# Altium footprint library lan_PCB.PcbLib: 28 footprints (part 2 of 2)
Each footprint in its own frame and in the unit in brackets; x right, y up, seen from the top. Pads: shape width x height; smd on the part's side, far side on the other; paste and mask are expansions set on the pad; w line width, h text height; cw(c..) or ccw(c..) is an arc to the next point about the centre after c.
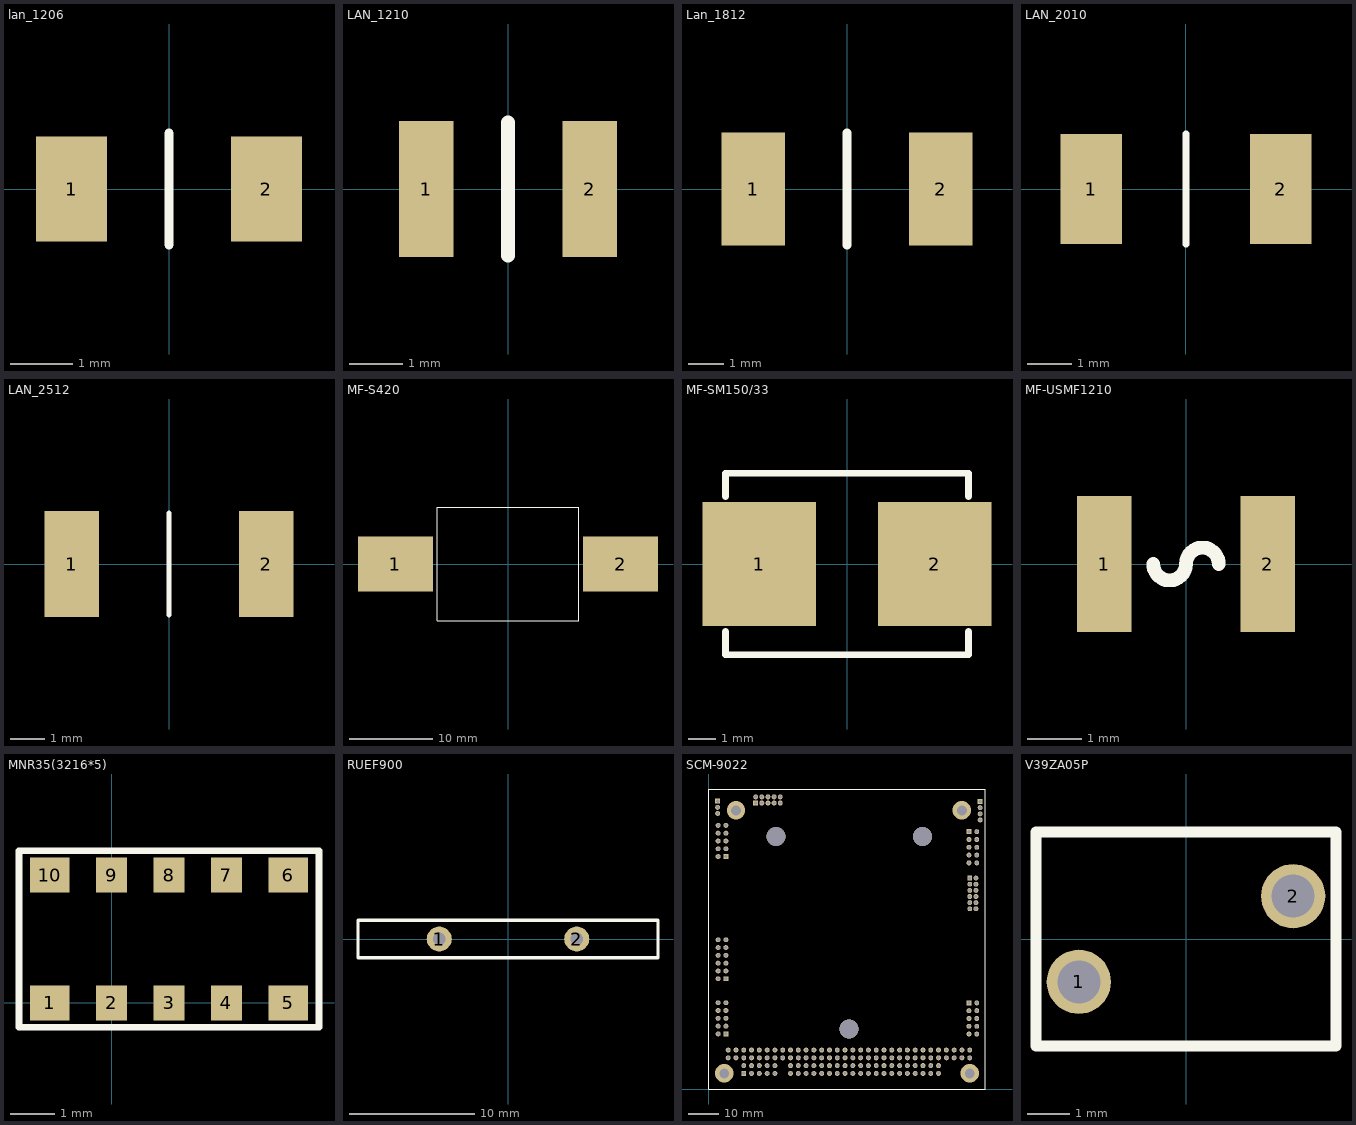
[diagram p1: the footprints below, top view; thin cyan lines are the x and y axes]

## lan_1206 [mm]
pads (2):
  rect 1.15x1.7 smd: 1(-1.575,0) 2(1.575,0)
Top Overlay:
  lines w0.152: 0,-0.9 0,0.9
3D body: height 1, standoff 0, extent -1.6,-0.787 1.6,0.787

## LAN_1210 [mil] "FOR AVX CAPACITOR"
height 138
pads (2):
  rect 40x100 smd: 1(-60,0) 2(60,0)
Top Overlay:
  lines w10: 0,-49 0,49

## Lan_1812 [mm] "For Junyao SMD1812 PTC"
pads (2):
  rect 1.78x3.15 smd mask+0.127: 1(-2.616,0) 2(2.616,0)
Top Overlay:
  lines w0.254: 0,-1.57 0,1.57

## LAN_2010 [mm]
pads (2):
  rect 1.4x2.5 smd: 1(-2.15,0) 2(2.15,0)
Top Overlay:
  lines w0.152: 0,-1.25 0,1.25

## LAN_2512 [mm]
pads (2):
  rect 1.6x3.1 smd: 1(-2.85,0) 2(2.85,0)
Top Overlay:
  lines w0.152: 0,-1.5 0,1.5

## MF-S420 [mm] "保持电流4.2A,跳闸电流7.6A,30V"
height 1.1
pads (2):
  rect 9x6.6 smd: 1(-13.5,0) 2(13.5,0)
Top Overlay:
  lines w0.102: -8.5,-6.8 -8.5,6.8 8.5,6.8 8.5,-6.8 -8.5,-6.8

## MF-SM150/33 [mm] "PTC RESETTABLE FUSE"
height 3
pads (2):
  rect 4.2x4.6 smd: 1(-3.25,0) 2(3.25,0)
Top Overlay:
  lines w0.254: -4.5,-2.5 -4.5,-3.36 4.5,-3.36 4.5,-2.5 ; -4.5,2.5 -4.5,3.36 4.5,3.36 4.5,2.5

## MF-USMF1210 [mm] "PTC FUSE"
height 1.1
pads (2):
  rect 1x2.5 smd: 1(-1.5,0) 2(1.5,0)
Top Overlay:
  lines w0.254: -0.6,0 ccw(c-0.3,0) 0,0 cw(c0.3,0) 0.6,0

## MNR35(3216*5) [mm]
pads (10):
  rect 0.9x0.8 smd: 1(-1.4,0) 5(4,0) 6(4,2.9) 10(-1.4,2.9)
  rect 0.7x0.8 smd: 2(0,0) 3(1.3,0) 4(2.6,0) 7(2.6,2.9) 8(1.3,2.9) 9(0,2.9)
Top Overlay:
  lines w0.152: -2.1,-0.55 -2.1,3.45 4.7,3.45 4.7,-0.55 -2.1,-0.55

## RUEF900 [mm] "自恢复保险丝30V0.9A"
height 29
pads (2):
  round 2 hole 1: 1(-5.5,0) 2(5.5,0)
Top Overlay:
  lines w0.254: -12,-1.5 -12,1.5 12,1.5 12,-1.5 -12,-1.5

## SCM-9022 [mm] "PC104"
height 10
pads (195):
  rect 1.6x1.6 hole 1.1: 1(11.43,5.08) 11(84.84,28.07) 21(85.11,68.75) 33(84.84,83.87) 43(15.32,93.22) 53(5.61,75.77) 63(5.61,35.94) 75(5.61,17.96) 189(88.49,93.7) 193(2.92,93.82)
  round 1.6 hole 1.1: 2(11.43,7.62) 3(13.97,5.08) 4(13.97,7.62) 5(16.51,5.08) 6(16.51,7.62) 7(19.05,5.08) 8(19.05,7.62) 9(21.59,5.08) 10(21.59,7.62) 12(87.38,28.07) 13(84.84,25.53) 14(87.38,25.53) 15(84.84,22.99) 16(87.38,22.99) 17(84.84,20.45) 18(87.38,20.45) 19(84.84,17.91) 20(87.38,17.91) 22(87.11,68.75) 23(85.11,66.75) 24(87.11,66.75) 25(85.11,64.75) 26(87.11,64.75) 27(85.11,62.75) 28(87.11,62.75) 29(85.11,60.75) 30(87.11,60.75) 31(85.11,58.75) 32(87.11,58.75) 34(87.38,83.87) 35(84.84,81.33) 36(87.38,81.33) 37(84.84,78.79) 38(87.38,78.79) 39(84.84,76.25) 40(87.38,76.25) 41(84.84,73.71) 42(87.38,73.71) 44(15.32,95.22) 45(17.32,93.22) 46(17.32,95.22) 47(19.32,93.22) 48(19.32,95.22) 49(21.32,93.22) 50(21.32,95.22) 51(23.32,93.22) 52(23.32,95.22) 54(3.07,75.77) 55(5.61,78.31) 56(3.07,78.31) 57(5.61,80.85) 58(3.07,80.85) 59(5.61,83.39) 60(3.07,83.39) 61(5.61,85.93) 62(3.07,85.93) 64(3.07,35.94) 65(5.61,38.48) 66(3.07,38.48) 67(5.61,41.02) 68(3.07,41.02) 69(5.61,43.56) 70(3.07,43.56) 71(5.61,46.1) 72(3.07,46.1) 73(5.61,48.64) 74(3.07,48.64) 76(3.07,17.96) 77(5.61,20.5) 78(3.07,20.5) 79(5.61,23.04) 80(3.07,23.04) 81(5.61,25.58) 82(3.07,25.58) 83(5.61,28.12) 84(3.07,28.12) 85(6.35,10.16) 86(8.89,10.16) 87(11.43,10.16) 88(13.97,10.16) 89(16.51,10.16) 90(19.05,10.16) 91(21.59,10.16) 92(24.13,10.16) 93(26.67,10.16) 94(29.21,10.16) 95(31.75,10.16) 96(34.29,10.16) 97(36.83,10.16) 98(39.37,10.16) 99(41.91,10.16) 100(44.45,10.16) 101(46.99,10.16) 102(49.53,10.16) 103(52.07,10.16) 104(54.61,10.16) 105(57.15,10.16) 106(59.69,10.16) 107(62.23,10.16) 108(64.77,10.16) 109(67.31,10.16) 110(69.85,10.16) 111(72.39,10.16) 112(74.93,10.16) 113(77.47,10.16) 114(80.01,10.16) 115(82.55,10.16) 116(85.09,10.16) 117(6.35,12.7) 118(8.89,12.7) 119(11.43,12.7) 120(13.97,12.7) 121(16.51,12.7) 122(19.05,12.7) 123(21.59,12.7) 124(24.13,12.7) 125(26.67,12.7) 126(29.21,12.7) 127(31.75,12.7) 128(34.29,12.7) 129(36.83,12.7) 130(39.37,12.7) 131(41.91,12.7) 132(44.45,12.7) 133(46.99,12.7) 134(49.53,12.7) 135(52.07,12.7) 136(54.61,12.7) 137(57.15,12.7) 138(59.69,12.7) 139(62.23,12.7) 140(64.77,12.7) 141(67.31,12.7) 142(69.85,12.7) 143(72.39,12.7) 144(74.93,12.7) 145(77.47,12.7) 146(80.01,12.7) 147(82.55,12.7) 148(85.09,12.7) 149(26.67,7.62) 150(29.21,7.62) 151(31.75,7.62) 152(34.29,7.62) 153(36.83,7.62) 154(39.37,7.62) 155(41.91,7.62) 156(44.45,7.62) 157(46.99,7.62) 158(49.53,7.62) 159(52.07,7.62) 160(54.61,7.62) 161(57.15,7.62) 162(59.69,7.62) 163(62.23,7.62) 164(64.77,7.62) 165(67.31,7.62) 166(69.85,7.62) 167(72.39,7.62) 168(74.93,7.62) 169(26.67,5.08) 170(29.21,5.08) 171(31.75,5.08) 172(34.29,5.08) 173(36.83,5.08) 174(39.37,5.08) 175(41.91,5.08) 176(44.45,5.08) 177(46.99,5.08) 178(49.53,5.08) 179(52.07,5.08) 180(54.61,5.08) 181(57.15,5.08) 182(59.69,5.08) 183(62.23,5.08) 184(64.77,5.08) 185(67.31,5.08) 186(69.85,5.08) 187(72.39,5.08) 188(74.93,5.08) 190(88.49,91.7) 191(88.49,89.7) 192(88.49,87.7) 194(2.92,91.82) 195(2.92,89.82)
via 5.08,5.08 diameter 6 hole 3.2
via 85.09,5.08 diameter 6 hole 3.2
via 8.89,90.8 diameter 6 hole 3.2
via 82.55,90.8 diameter 6 hole 3.2
via 45.79,19.59 diameter 6.2 hole 6.2
via 21.91,82.35 diameter 6.2 hole 6.2
via 69.66,82.35 diameter 6.2 hole 6.2
Top Overlay:
  lines w0.254: 0,0 0,97.79 90.17,97.79 90.17,0 0,0

## V39ZA05P [mm]
height 10
pads (2):
  round 1.5 hole 1: 1(-2.5,-1) 2(2.5,1)
Top Overlay:
  lines w0.254: -3.5,-2.5 -3.5,2.5 3.5,2.5 3.5,-2.5 -3.5,-2.5